# Altium schematic symbol library Inductance_1-3.SchLib: 1 symbol
Pins are listed as number, name and electrical type; pins without a type are passive.

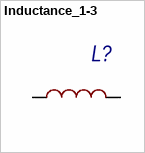
[diagram p0: symbol Inductance_1-3]

## Inductance_1-3
designator L?
например для CDRH6D12
pins: 1, 3